# Altium footprint library TaiyoYuden.PcbLib: 1 footprints
Each footprint in its own frame and in the unit in brackets; x right, y up, seen from the top. Pads: shape width x height; smd on the part's side, far side on the other; paste and mask are expansions set on the pad; w line width, h text height; cw(c..) or ccw(c..) is an arc to the next point about the centre after c.
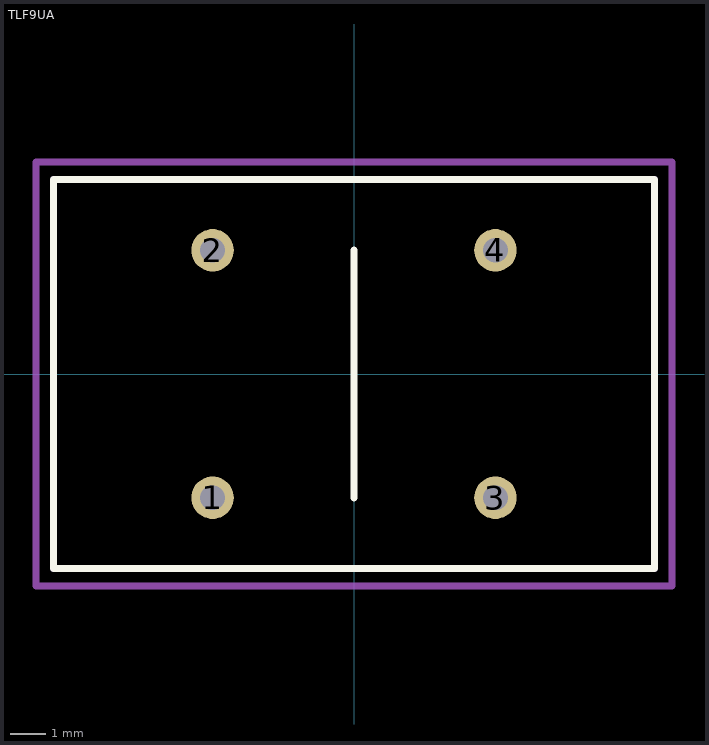
[diagram p0: the footprint, top view; thin cyan lines are the x and y axes]

## TLF9UA [mm]
height 16
pads (4):
  round 1.2 hole 0.7: 1(-4,-3.5) 2(-4,3.5) 3(4,-3.5) 4(4,3.5)
Top Overlay:
  lines w0.2: 0,-3.5 0,3.5 ; -8.5,-5.5 8.5,-5.5 8.5,5.5 -8.5,5.5 -8.5,-5.5
Assembly:
  lines w0.2: -8.5,-5.5 -8.5,5.5 8.5,5.5 8.5,-5.5 -8.5,-5.5
Courtyard:
  lines w0.2: -9,-6 9,-6 9,6 -9,6 -9,-6
3D body: height 16, standoff 0, extent -8.5,-5.5 8.5,5.5